# Altium footprint library Custom Components.PcbLib: 37 footprints (part 3 of 3)
Each footprint in its own frame and in the unit in brackets; x right, y up, seen from the top. Pads: shape width x height; smd on the part's side, far side on the other; paste and mask are expansions set on the pad; w line width, h text height; cw(c..) or ccw(c..) is an arc to the next point about the centre after c.
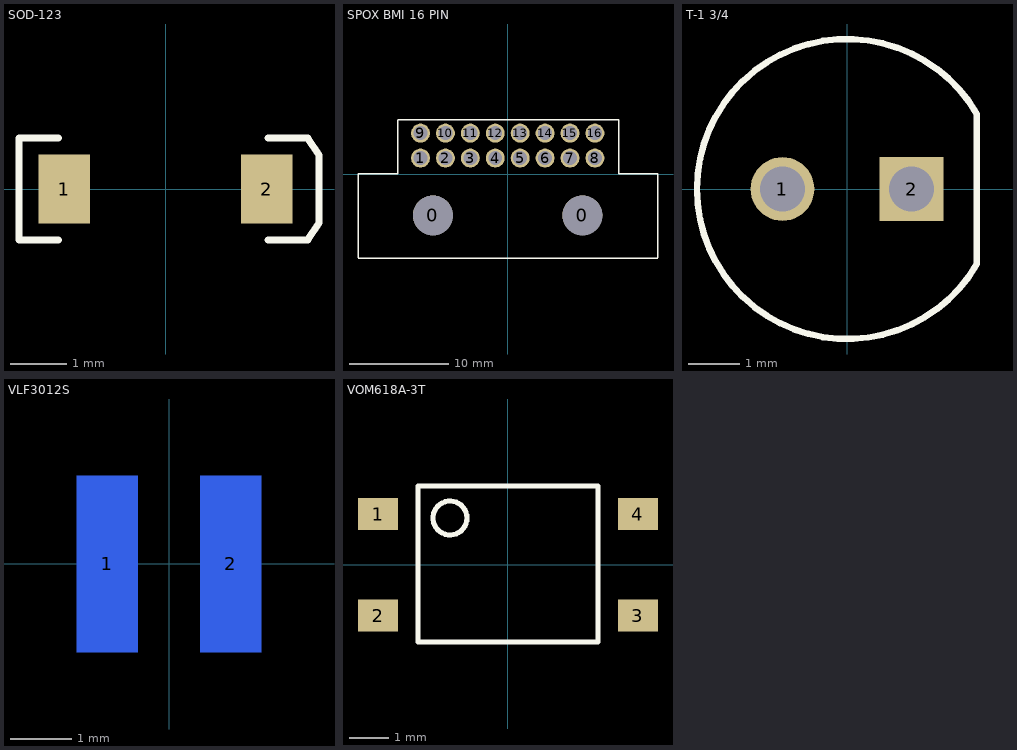
[diagram p2: the footprints below, top view; thin cyan lines are the x and y axes]

## SOD-123 [mm] "SOD-123 Diode"
height 1.35
pads (2):
  rect 0.91x1.22 smd: 1(-1.79,0) 2(1.79,0)
Top Overlay:
  lines w0.127: -1.89,-0.9 -2.59,-0.9 -2.59,0.9 -1.89,0.9 ; 1.81,-0.9 2.51,-0.9 2.71,-0.6 2.71,0.6 2.51,0.9 1.81,0.9
Top Designator:
  text ".Designator" at -4.384,0.172 h0.89
3D body: height 2.45, standoff -5.95, extent -1.79,0 -1.79,0
3D body: height 2.45, standoff -5.95, extent -0.99,1.1 -0.79,1.1
3D body: height 2.45, standoff 0, extent -0.69,1.6 -0.69,1.6
3D body: height 1.35, standoff 0, extent -1.39,-0.85 1.41,0.85
3D body: height 2.45, standoff 0, extent 1.21,1.9 1.21,1.9

## SPOX BMI 16 PIN [mm] "MOLEX SPOX BMI 16 PIN"
pads (18):
  round 4 hole 4 unplated: 0(-7.5,-4.125) 0(7.5,-4.125)
  round 1.9 hole 1.4: 1(-8.75,1.625) 2(-6.25,1.625) 3(-3.75,1.625) 4(-1.25,1.625) 5(1.25,1.625) 6(3.75,1.625) 7(6.25,1.625) 8(8.75,1.625) 9(-8.75,4.125) 10(-6.25,4.125) 11(-3.75,4.125) 12(-1.25,4.125) 13(1.25,4.125) 14(3.75,4.125) 15(6.25,4.125) 16(8.75,4.125)
Top Overlay:
  lines w0.127: -15.02,-8.425 15.08,-8.425 ; -15.02,-8.375 -15.02,0.025 ; -14.975,0.025 -11.05,0.025 -11.05,5.415 ; -11.05,5.465 11.15,5.465 11.15,0.025 15.075,0.025 ; 15.08,-8.375 15.08,0.025
Top Designator:
  text ".Designator" at -4.414,-1.776 h0.89

## T-1 3/4 [mil] "T-1 3/4 LED"
pads (2):
  round 49.37 hole 35: 1(-50,0)
  rect 49.37x49.37 hole 35: 2(50,0)
Top Overlay:
  lines w5: 100.58,-58.07 cw(c0,0) 100.58,58.07 100.58,-58.07
Top Designator:
  text ".Designator" at -182.72,-11.66 h35
3D body "1503.STEP": height 1039.37, standoff -362.2, extent -101.18,-98.43 95.67,98.43

## VLF3012S [mm] "INDUCTOR FOR 3.3V Regulator"
height 1.2
pads (2):
  rect 1x2.9 smd far side: 1(-1.015,0) 2(1.015,0)
Bottom Overlay:
  lines w0.127: -1.74,0.8 -1.74,1.676 1.733,1.676 1.733,0.8 ; -1.732,-0.8 -1.732,-1.684 1.733,-1.684 1.733,-0.8
Top Designator:
  text ".Designator" at -4.444,-0.414 h0.89
3D body: height 2.45, standoff 0, extent -1.45,-1.4 1.55,1.4
3D body: height 1.2, standoff 0, extent 1.85,-1.7 1.85,-1.7

## VOM618A-3T [mm] "Single Opto-Isolator"
height 3.8
pads (4):
  rect 1x0.8 smd: 1(-3.25,1.27) 2(-3.25,-1.27) 3(3.25,-1.27) 4(3.25,1.27)
Top Overlay:
  circle w0.127: c-1.45,1.17 r0.424
  lines w0.127: -2.25,-1.93 -2.25,1.97 2.25,1.97 2.25,-1.93 -2.25,-1.93
Top Designator:
  text ".Designator" at -4.444,-0.276 h0.89
3D body: height 3.8, standoff 0, extent -2.249,-1.929 2.249,1.969